# Altium footprint library CORE_FPGA.PcbLib: 20 footprints (part 1 of 2)
Each footprint in its own frame and in the unit in brackets; x right, y up, seen from the top. Pads: shape width x height; smd on the part's side, far side on the other; paste and mask are expansions set on the pad; w line width, h text height; cw(c..) or ccw(c..) is an arc to the next point about the centre after c.
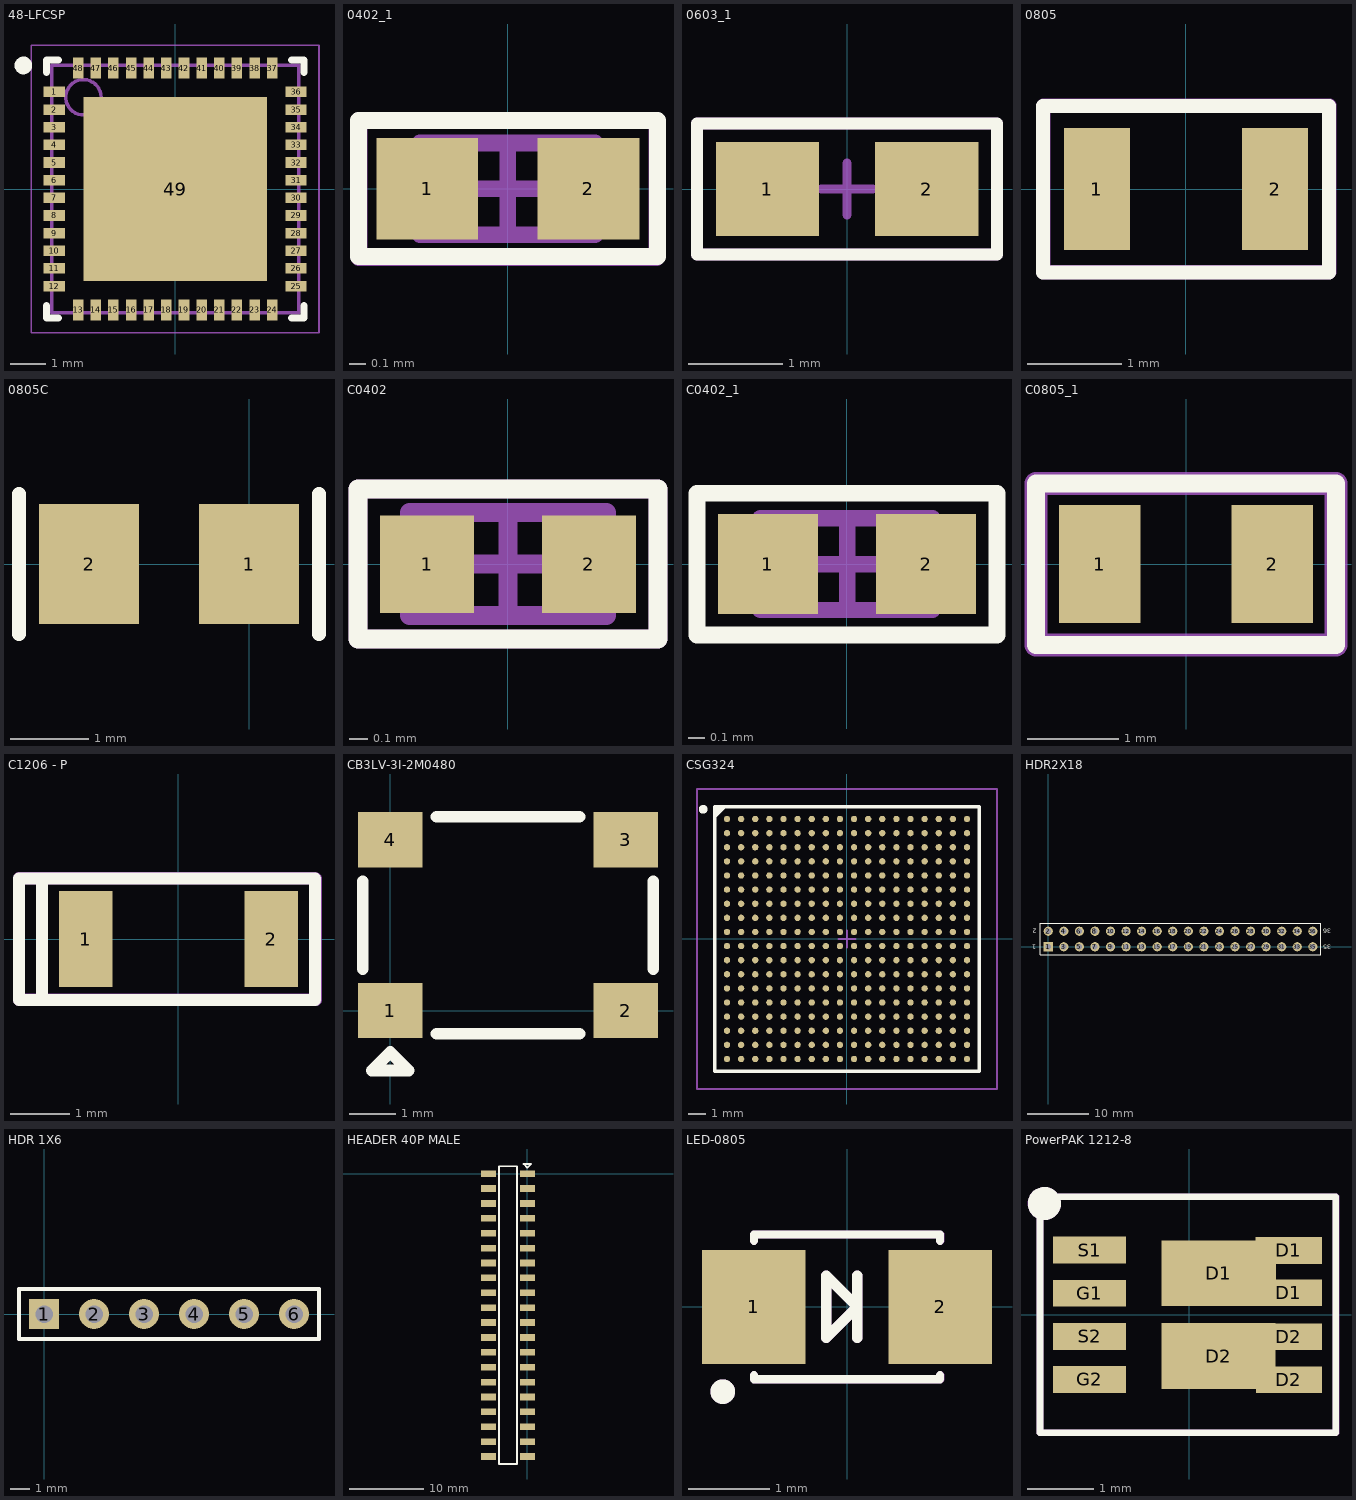
[diagram p0: the footprints below, top view; thin cyan lines are the x and y axes]

## 48-LFCSP [mm] "QFN, 48-Leads, Body 7.00x7.00mm, Pitch 0.50mm, Thermal Pad 5.50x5.50mm, IPC Medium Density"
height 0.75
pads (49):
  rect 0.6x0.3 smd: 1(-3.425,2.75) 2(-3.425,2.25) 3(-3.425,1.75) 4(-3.425,1.25) 5(-3.425,0.75) 6(-3.425,0.25) 7(-3.425,-0.25) 8(-3.425,-0.75) 9(-3.425,-1.25) 10(-3.425,-1.75) 11(-3.425,-2.25) 12(-3.425,-2.75) 25(3.425,-2.75) 26(3.425,-2.25) 27(3.425,-1.75) 28(3.425,-1.25) 29(3.425,-0.75) 30(3.425,-0.25) 31(3.425,0.25) 32(3.425,0.75) 33(3.425,1.25) 34(3.425,1.75) 35(3.425,2.25) 36(3.425,2.75)
  rect 0.3x0.6 smd: 13(-2.75,-3.425) 14(-2.25,-3.425) 15(-1.75,-3.425) 16(-1.25,-3.425) 17(-0.75,-3.425) 18(-0.25,-3.425) 19(0.25,-3.425) 20(0.75,-3.425) 21(1.25,-3.425) 22(1.75,-3.425) 23(2.25,-3.425) 24(2.75,-3.425) 37(2.75,3.425) 38(2.25,3.425) 39(1.75,3.425) 40(1.25,3.425) 41(0.75,3.425) 42(0.25,3.425) 43(-0.25,3.425) 44(-0.75,3.425) 45(-1.25,3.425) 46(-1.75,3.425) 47(-2.25,3.425) 48(-2.75,3.425)
  rect 5.2x5.2 smd: 49(0,0)
Top Overlay:
  circle w0.25: c-4.3,3.5 r0.125
  lines w0.2: -3.65,-3.3 -3.65,-3.65 -3.3,-3.65 ; -3.65,3.3 -3.65,3.65 -3.3,3.65 ; 3.3,-3.65 3.65,-3.65 3.65,-3.3 ; 3.3,3.65 3.65,3.65 3.65,3.3
Mechanical 13:
  circle w0.1: c-2.6,2.6 r0.5
  lines w0.1: -3.5,-3.5 -3.5,3.5 3.5,3.5 3.5,-3.5 -3.5,-3.5
Mechanical 15:
  lines w0.05: -4.075,-4.075 -4.075,4.075 4.075,4.075 4.075,-4.075 -4.075,-4.075
  lines w0.1: -0.5,0 0.5,0 ; 0,-0.5 0,0.5
3D body: height 0.75, standoff 0.02, extent -3.5,-3.5 3.5,3.5

## 0402_1 [mil]
pads (2):
  rect 24x24 smd mask+1.57: 1(-18.99,0.01) 2(19.01,0.01)
Top Overlay:
  lines w4: -35.16,-16.01 -35.16,16.1 35.36,16.1 35.36,-16.01 -35.16,-16.01
Mechanical 13:
  lines w3.94: -20.71,-10.82 20.63,-10.82 20.63,10.83 -20.71,10.83 -20.71,-10.82
Mechanical 15:
  lines w1.97: -35.33,-16.02 35.43,-16.02 35.43,15.93 -35.33,15.93 -35.33,-16.02
  lines w3.94: -10.87,0 10.79,0 ; -0.04,-10.82 -0.04,10.83
Mechanical 16:
  lines w4: -35.14,-16.21 -35.14,16.14 35.13,16.14 35.13,-16.21 -35.14,-16.21
Mechanical 31:
  text ".Designator" at -46.97,-3.28 h10.5
3D body "RESC1005X04L.step": height 15.75, standoff 0, extent -20.71,-10.82 20.63,10.83

## 0603_1 [mm] "RES0603"
pads (2):
  rect 1.1x1 smd: 1(-0.85,0) 2(0.85,0)
Top Overlay:
  lines w0.127: -1.6,-0.7 -1.6,0.7 1.6,0.7 1.6,-0.7 -1.6,-0.7
Mechanical 15:
  lines w0.1: -0.275,0 0.275,0 ; 0,-0.275 0,0.275
  lines w0.127: -1.6,-0.7 -1.6,0.7 1.6,0.7 1.6,-0.7 -1.6,-0.7
Mechanical 16:
  lines w0.102: -1.6,-0.7 1.6,-0.7 1.6,0.7 -1.6,0.7 -1.6,-0.7
Mechanical 31:
  text ".Designator" at -1.193,-0.083 h0.27

## 0805 [mm]
pads (2):
  rect 0.7x1.3 smd: 1(-0.95,0) 2(0.95,0)
Top Overlay:
  lines w0.15: -1.524,-0.889 -1.524,0.889 1.524,0.889 1.524,-0.889 -1.524,-0.889
Mechanical 15:
  lines w0.076: -1.524,-0.889 1.524,-0.889 1.524,0.889 -1.524,0.889 -1.524,-0.889
Mechanical 16:
  lines w0.15: -1.521,-0.887 1.527,-0.887 1.527,0.891 -1.521,0.891 -1.521,-0.887 ; -1.519,-0.886 -1.519,0.892 1.529,0.892 1.529,-0.886 -1.519,-0.886
Mechanical 31:
  text ".Designator" at -1.183,-0.344 h0.65
3D body: height 0.5, standoff 0, extent -1.016,-0.635 1.016,0.635

## 0805C [mil]
pads (2):
  rect 50x60 smd: 1(0,0) 2(-80,0)
Top Overlay:
  lines w7: -115,-35 -115,35 ; 35,-35 35,35

## C0402 [mm]
pads (2):
  rect 0.5x0.52 smd mask+0.04: 1(-0.432,0) 2(0.432,0)
Top Overlay:
  lines w0.102: -0.8,-0.4 -0.8,0.4 0.8,0.4 0.8,-0.4 -0.8,-0.4
Mechanical 13:
  lines w0.1: -0.525,-0.275 -0.525,0.275 0.525,0.275 0.525,-0.275 -0.525,-0.275
Mechanical 15:
  lines w0.05: -0.8,-0.4 -0.8,0.4 0.8,0.4 0.8,-0.4 -0.8,-0.4
  lines w0.1: -0.275,0 0.275,0 ; 0,-0.275 0,0.275
Mechanical 16:
  lines w0.102: -0.8,-0.4 0.8,-0.4 ; -0.8,-0.4 -0.8,0.4 ; -0.8,-0.4 -0.8,0.4 ; -0.8,-0.4 0.8,-0.4 ; -0.8,0.4 0.8,0.4 ; -0.8,0.4 0.8,0.4 ; 0.8,-0.4 0.8,0.4 ; 0.8,-0.4 0.8,0.4
Mechanical 31:
  text ".Designator" at 0.639,0.135 h0.27
3D body "CAPC1005X06L.step": height 0.55, standoff 0, extent -0.525,-0.275 0.525,0.275

## C0402_1 [mil]
pads (2):
  rect 24x24 smd mask+1.57: 1(-19,0) 2(19,0)
Top Overlay:
  lines w4: -36,-17 36,-17 36,17 -36,17 -36,-17
Mechanical 13:
  lines w3.94: -20.81,-11 20.52,-11 20.52,11 -20.81,11 -20.81,-11
Mechanical 15:
  lines w1.97: -36,-17 36,-17 36,17.07 -36,17.07 -36,-17
  lines w3.94: -10.8,0 10.85,0 ; 0.03,-10 0.03,10
Mechanical 16:
  lines w3: -36,-17 36,-17 36,17 -36,17 -36,-17
Mechanical 31:
  text ".Designator" at -49.85,-31.1 h10.5
3D body "CAPC1005X06L.step": height 21.65, standoff 0, extent -20.67,-11 20.67,10.65

## C0805_1 [mm]
pads (2):
  rect 0.9x1.3 smd: 1(-0.95,0) 2(0.95,0)
Top Overlay:
  lines w0.2: -1.651,-0.889 1.651,-0.889 1.651,0.889 -1.651,0.889 -1.651,-0.889
Mechanical 14:
  lines w0.254: -1.651,-0.889 1.651,-0.889 1.651,0.889 -1.651,0.889 -1.651,-0.889
Mechanical 16:
  lines w0.2: -1.652,-0.888 1.65,-0.888 1.65,0.89 -1.652,0.89 -1.652,-0.888 ; -1.651,-0.887 -1.651,0.891 1.651,0.891 1.651,-0.887 -1.651,-0.887
Mechanical 31:
  text ".Designator" at 1.377,0.273 h0.6
3D body "CAPC2012X95N EIA 0805.step": height 0.95, standoff 0, extent -1,-0.6 1,0.6
3D body "CAPC2012X95N EIA 0805.step": height 1.5, standoff 0.55, extent -1,-0.6 1,0.6

## C1206 - P [mm]
pads (2):
  rect 0.9x1.6 smd: 1(-1.55,0) 2(1.55,0)
Top Overlay:
  lines w0.2: -2.286,-1.016 -2.286,1.016 ; -2.667,-1.016 -2.159,-1.016 2.286,-1.016 2.286,1.016 -2.159,1.016 -2.667,1.016 -2.667,-1.016
Mechanical 15:
  lines w0.2: -2.216,-1.016 2.3,-1.016 2.3,1.016 -2.216,1.016 ; -2.667,-1.016 -2.667,1.016 -2.286,1.016 -2.286,-1.016 -2.667,-1.016
Mechanical 16:
  lines w0.2: -2.286,-1.016 -2.286,1.016 ; -2.285,-1.015 -2.285,1.017 ; -2.667,-1.016 -2.159,-1.016 2.286,-1.016 2.286,1.016 -2.159,1.016 -2.667,1.016 -2.667,-1.016 ; -2.666,-1.015 -2.666,1.017 -2.158,1.017 2.287,1.017 2.287,-1.015 -2.158,-1.015 -2.666,-1.015
Mechanical 31:
  text ".Designator" at 1.363,0.343 h0.6
3D body "CAPC3216X95N EIA 1206.step": height 0.95, standoff 0, extent -1.6,-0.8 1.6,0.8
3D body "CAPC3216X95N EIA 1206.step": height 1.8, standoff 0.85, extent -1.6,-0.8 1.6,0.8

## CB3LV-3I-2M0480 [mm] "7mm x 5mm"
pads (4):
  rect 1.4x1.2 smd: 1(0,0) 2(5.1,0) 3(5.1,3.7) 4(0,3.7)
Top Overlay:
  lines w0.254: -0.6,0.9 -0.6,2.8 ; 1,-0.5 4.1,-0.5 ; 1,4.2 4.1,4.2 ; 5.7,0.9 5.7,2.8 ; -0.4,-1.3 0.4,-1.3 0,-0.9 -0.4,-1.3

## CSG324 [mm] "BGA, 324-Leads, Body 15x15mm, Pitch 0.8mm"
height 1.5
pads (324):
  round 0.36 smd: A1(-6.8,6.8) A2(-6,6.8) A3(-5.2,6.8) A4(-4.4,6.8) A5(-3.6,6.8) A6(-2.8,6.8) A7(-2,6.8) A8(-1.2,6.8) A9(-0.4,6.8) A10(0.4,6.8) A11(1.2,6.8) A12(2,6.8) A13(2.8,6.8) A14(3.6,6.8) A15(4.4,6.8) A16(5.2,6.8) A17(6,6.8) A18(6.8,6.8) B1(-6.8,6) B2(-6,6) B3(-5.2,6) B4(-4.4,6) B5(-3.6,6) B6(-2.8,6) B7(-2,6) B8(-1.2,6) B9(-0.4,6) B10(0.4,6) B11(1.2,6) B12(2,6) B13(2.8,6) B14(3.6,6) B15(4.4,6) B16(5.2,6) B17(6,6) B18(6.8,6) C1(-6.8,5.2) C2(-6,5.2) C3(-5.2,5.2) C4(-4.4,5.2) C5(-3.6,5.2) C6(-2.8,5.2) C7(-2,5.2) C8(-1.2,5.2) C9(-0.4,5.2) C10(0.4,5.2) C11(1.2,5.2) C12(2,5.2) C13(2.8,5.2) C14(3.6,5.2) C15(4.4,5.2) C16(5.2,5.2) C17(6,5.2) C18(6.8,5.2) D1(-6.8,4.4) D2(-6,4.4) D3(-5.2,4.4) D4(-4.4,4.4) D5(-3.6,4.4) D6(-2.8,4.4) D7(-2,4.4) D8(-1.2,4.4) D9(-0.4,4.4) D10(0.4,4.4) D11(1.2,4.4) D12(2,4.4) D13(2.8,4.4) D14(3.6,4.4) D15(4.4,4.4) D16(5.2,4.4) D17(6,4.4) D18(6.8,4.4) E1(-6.8,3.6) E2(-6,3.6) E3(-5.2,3.6) E4(-4.4,3.6) E5(-3.6,3.6) E6(-2.8,3.6) E7(-2,3.6) E8(-1.2,3.6) E9(-0.4,3.6) E10(0.4,3.6) E11(1.2,3.6) E12(2,3.6) E13(2.8,3.6) E14(3.6,3.6) E15(4.4,3.6) E16(5.2,3.6) E17(6,3.6) E18(6.8,3.6) F1(-6.8,2.8) F2(-6,2.8) F3(-5.2,2.8) F4(-4.4,2.8) F5(-3.6,2.8) F6(-2.8,2.8) F7(-2,2.8) F8(-1.2,2.8) F9(-0.4,2.8) F10(0.4,2.8) F11(1.2,2.8) F12(2,2.8) F13(2.8,2.8) F14(3.6,2.8) F15(4.4,2.8) F16(5.2,2.8) F17(6,2.8) F18(6.8,2.8) G1(-6.8,2) G2(-6,2) G3(-5.2,2) G4(-4.4,2) G5(-3.6,2) G6(-2.8,2) G7(-2,2) G8(-1.2,2) G9(-0.4,2) G10(0.4,2) G11(1.2,2) G12(2,2) G13(2.8,2) G14(3.6,2) G15(4.4,2) G16(5.2,2) G17(6,2) G18(6.8,2) H1(-6.8,1.2) H2(-6,1.2) H3(-5.2,1.2) H4(-4.4,1.2) H5(-3.6,1.2) H6(-2.8,1.2) H7(-2,1.2) H8(-1.2,1.2) H9(-0.4,1.2) H10(0.4,1.2) H11(1.2,1.2) H12(2,1.2) H13(2.8,1.2) H14(3.6,1.2) H15(4.4,1.2) H16(5.2,1.2) H17(6,1.2) H18(6.8,1.2) J1(-6.8,0.4) J2(-6,0.4) J3(-5.2,0.4) J4(-4.4,0.4) J5(-3.6,0.4) J6(-2.8,0.4) J7(-2,0.4) J8(-1.2,0.4) J9(-0.4,0.4) J10(0.4,0.4) J11(1.2,0.4) J12(2,0.4) J13(2.8,0.4) J14(3.6,0.4) J15(4.4,0.4) J16(5.2,0.4) J17(6,0.4) J18(6.8,0.4) K1(-6.8,-0.4) K2(-6,-0.4) K3(-5.2,-0.4) K4(-4.4,-0.4) K5(-3.6,-0.4) K6(-2.8,-0.4) K7(-2,-0.4) K8(-1.2,-0.4) K9(-0.4,-0.4) K10(0.4,-0.4) K11(1.2,-0.4) K12(2,-0.4) K13(2.8,-0.4) K14(3.6,-0.4) K15(4.4,-0.4) K16(5.2,-0.4) K17(6,-0.4) K18(6.8,-0.4) L1(-6.8,-1.2) L2(-6,-1.2) L3(-5.2,-1.2) L4(-4.4,-1.2) L5(-3.6,-1.2) L6(-2.8,-1.2) L7(-2,-1.2) L8(-1.2,-1.2) L9(-0.4,-1.2) L10(0.4,-1.2) L11(1.2,-1.2) L12(2,-1.2) L13(2.8,-1.2) L14(3.6,-1.2) L15(4.4,-1.2) L16(5.2,-1.2) L17(6,-1.2) L18(6.8,-1.2) M1(-6.8,-2) M2(-6,-2) M3(-5.2,-2) M4(-4.4,-2) M5(-3.6,-2) M6(-2.8,-2) M7(-2,-2) M8(-1.2,-2) M9(-0.4,-2) M10(0.4,-2) M11(1.2,-2) M12(2,-2) M13(2.8,-2) M14(3.6,-2) M15(4.4,-2) M16(5.2,-2) M17(6,-2) M18(6.8,-2) N1(-6.8,-2.8) N2(-6,-2.8) N3(-5.2,-2.8) N4(-4.4,-2.8) N5(-3.6,-2.8) N6(-2.8,-2.8) N7(-2,-2.8) N8(-1.2,-2.8) N9(-0.4,-2.8) N10(0.4,-2.8) N11(1.2,-2.8) N12(2,-2.8) N13(2.8,-2.8) N14(3.6,-2.8) N15(4.4,-2.8) N16(5.2,-2.8) N17(6,-2.8) N18(6.8,-2.8) P1(-6.8,-3.6) P2(-6,-3.6) P3(-5.2,-3.6) P4(-4.4,-3.6) P5(-3.6,-3.6) P6(-2.8,-3.6) P7(-2,-3.6) P8(-1.2,-3.6) P9(-0.4,-3.6) P10(0.4,-3.6) P11(1.2,-3.6) P12(2,-3.6) P13(2.8,-3.6) P14(3.6,-3.6) P15(4.4,-3.6) P16(5.2,-3.6) P17(6,-3.6) P18(6.8,-3.6) R1(-6.8,-4.4) R2(-6,-4.4) R3(-5.2,-4.4) R4(-4.4,-4.4) R5(-3.6,-4.4) R6(-2.8,-4.4) R7(-2,-4.4) R8(-1.2,-4.4) R9(-0.4,-4.4) R10(0.4,-4.4) R11(1.2,-4.4) R12(2,-4.4) R13(2.8,-4.4) R14(3.6,-4.4) R15(4.4,-4.4) R16(5.2,-4.4) R17(6,-4.4) R18(6.8,-4.4) T1(-6.8,-5.2) T2(-6,-5.2) T3(-5.2,-5.2) T4(-4.4,-5.2) T5(-3.6,-5.2) T6(-2.8,-5.2) T7(-2,-5.2) T8(-1.2,-5.2) T9(-0.4,-5.2) T10(0.4,-5.2) T11(1.2,-5.2) T12(2,-5.2) T13(2.8,-5.2) T14(3.6,-5.2) T15(4.4,-5.2) T16(5.2,-5.2) T17(6,-5.2) T18(6.8,-5.2) U1(-6.8,-6) U2(-6,-6) U3(-5.2,-6) U4(-4.4,-6) U5(-3.6,-6) U6(-2.8,-6) U7(-2,-6) U8(-1.2,-6) U9(-0.4,-6) U10(0.4,-6) U11(1.2,-6) U12(2,-6) U13(2.8,-6) U14(3.6,-6) U15(4.4,-6) U16(5.2,-6) U17(6,-6) U18(6.8,-6) V1(-6.8,-6.8) V2(-6,-6.8) V3(-5.2,-6.8) V4(-4.4,-6.8) V5(-3.6,-6.8) V6(-2.8,-6.8) V7(-2,-6.8) V8(-1.2,-6.8) V9(-0.4,-6.8) V10(0.4,-6.8) V11(1.2,-6.8) V12(2,-6.8) V13(2.8,-6.8) V14(3.6,-6.8) V15(4.4,-6.8) V16(5.2,-6.8) V17(6,-6.8) V18(6.8,-6.8)
Top Overlay:
  circle w0.25: c-8.15,7.35 r0.125
  region: -6.92,7.5 -7.5,6.92 -7.5,7.5
  lines w0.2: -7.5,6.92 -6.92,7.5 ; -7.5,-7.5 7.5,-7.5 7.5,7.5 -7.5,7.5 -7.5,-7.5
Mechanical 13:
  lines w0.1: -7.5,-7.5 7.5,-7.5 7.5,7.5 -7.5,7.5 -7.5,-7.5
Mechanical 15:
  lines w0.1: -0.5,0 0.5,0 ; 0,-0.5 0,0.5 ; -8.5,-8.5 8.5,-8.5 8.5,8.5 -8.5,8.5 -8.5,-8.5
3D body: height 1.5, standoff 0, extent -7.5,-7.5 7.5,7.5

## HDR2X18 [mm] "Connector; Header; 18x2 Position"
pads (36):
  rect 1.5x1.5 hole 0.9: 1(0,0)
  round 1.5 hole 0.9: 2(0,2.54) 3(2.54,0) 4(2.54,2.54) 5(5.08,0) 6(5.08,2.54) 7(7.62,0) 8(7.62,2.54) 9(10.16,0) 10(10.16,2.54) 11(12.7,0) 12(12.7,2.54) 13(15.24,0) 14(15.24,2.54) 15(17.78,0) 16(17.78,2.54) 17(20.32,0) 18(20.32,2.54) 19(22.86,0) 20(22.86,2.54) 21(25.4,0) 22(25.4,2.54) 23(27.94,0) 24(27.94,2.54) 25(30.48,0) 26(30.48,2.54) 27(33.02,0) 28(33.02,2.54) 29(35.56,0) 30(35.56,2.54) 31(38.1,0) 32(38.1,2.54) 33(40.64,0) 34(40.64,2.54) 35(43.18,0) 36(43.18,2.54)
Top Overlay:
  lines w0.2: -1.27,-1.27 44.45,-1.27 44.45,3.81 -1.27,3.81 -1.27,-1.27
  text "36" at 46.2,2.94 h0.76
  text "35" at 46.2,0.34 h0.76
  text "1" at -2,0.34 h0.76
  text "2" at -1.9,2.94 h0.76

## HDR 1X6 [mil]
pads (6):
  rect 60x60 hole 35: 1(0,0)
  round 60 hole 35: 2(100,0) 3(200,0) 4(300,0) 5(400,0) 6(500,0)
Top Overlay:
  lines w8: -50,-50 550,-50 550,50 -50,50 -50,-50
Mechanical 16:
  lines w8: -50.02,-49.91 -50.02,50.09 549.98,50.09 549.98,-49.91 -50.02,-49.91
Mechanical 31:
  text ".Designator" at -118.09,38.8 h50

## HEADER 40P MALE [mm] "HEADER 2X20P 2.0MM MALE"
pads (40):
  rect 2x0.9 smd: 1(0,0) 2(-5.2,0) 3(0,-2) 4(-5.2,-2) 5(0,-4) 6(-5.2,-4) 7(0,-6) 8(-5.2,-6) 9(0,-8) 10(-5.2,-8) 11(0,-10) 12(-5.2,-10) 13(0,-12) 14(-5.2,-12) 15(0,-14) 16(-5.2,-14) 17(0,-16) 18(-5.2,-16) 19(0,-18) 20(-5.2,-18) 21(0,-20) 22(-5.2,-20) 23(0,-22) 24(-5.2,-22) 25(0,-24) 26(-5.2,-24) 27(0,-26) 28(-5.2,-26) 29(0,-28) 30(-5.2,-28) 31(0,-30) 32(-5.2,-30) 33(0,-32) 34(-5.2,-32) 35(0,-34) 36(-5.2,-34) 37(0,-36) 38(-5.2,-36) 39(0,-38) 40(-5.2,-38)
Top Overlay:
  lines w0.254: -3.8,-39 -1.4,-39 -1.4,1 -3.8,1 -3.8,-38.4 -3.8,-39 ; -0.5,1.3 0.5,1.3 0,0.8 -0.5,1.3

## LED-0805 [mil]
pads (2):
  rect 50x55 smd: 1(-45,0) 2(45,0)
Top Overlay:
  circle w10: c-60.04,-40.96 r0.93
  lines w4: -45,-33 -45,-35 45,-35 45,-33 ; -45,32 -45,35 45,35 45,32
  lines w5: 5,-15 5,15 ; -10,-15 5,0 -10,15 ; -10,-15 -10,15 ; -10,-15 -10,15
Mechanical 16:
  circle w10: c-60.01,-40.96 r0.93
  lines w4: -44.97,-33 -44.97,-35 45.03,-35 45.03,-33 ; -44.97,32 -44.97,35 45.03,35 45.03,32
  lines w5: 5.03,-15 5.03,15 ; -9.97,-15 -9.97,15 ; -9.97,-15 -9.97,15 ; -9.97,-15 5.03,0 -9.97,15
Mechanical 31:
  text ".Designator" at 180.06,13.26 h30
3D body "User Library-led_0805-Green.step": height 43.31, standoff 0, extent -39.76,-24.6 39.77,24.61

## PowerPAK 1212-8 [mm]
pads (10):
  rect 1.725x0.99 smd mask+0.05: D1(0.442,0.627) D2(0.441,-0.623)
  rect 1x0.405 smd mask+0.05: D1(1.501,0.969) D1(1.502,0.332) D2(1.501,-0.331) D2(1.502,-0.98)
  rect 1.1x0.405 smd mask+0.05: G1(-1.501,0.325) G2(-1.501,-0.975) S1(-1.501,0.975) S2(-1.501,-0.325)
Top Overlay:
  circle w0.25: c-2.184,1.676 r0.125
  lines w0.1: -2.25,-1.778 -2.25,1.778 -0.278,1.778 2.21,1.778 2.21,-1.778 -2.25,-1.778
Mechanical 15:
  circle w0.25: c-2.185,1.677 r0.125
  lines w0.1: -2.251,-1.778 -2.251,1.778 -0.279,1.778 2.209,1.778 2.209,-1.778 -2.251,-1.778
Mechanical 16:
  circle w0.25: c-2.182,1.676 r0.125
  lines w0.1: -2.248,-1.778 -2.248,1.778 -0.276,1.778 2.212,1.778 2.212,-1.778 -2.248,-1.778
3D body: height 1.04, standoff 0.25, extent -1.803,-1.626 1.727,1.6